# EAGLE library part CON_01X31 (library mfconnectors)
Library: MF_Connectors Description: Header Connector with 31 Positions and 01 Rows. Use the LABEL Attribute to label the pin on the schematic and PCB. You can remove the attributes on the PCB by using the SMASH function on the part and then deleting the text.
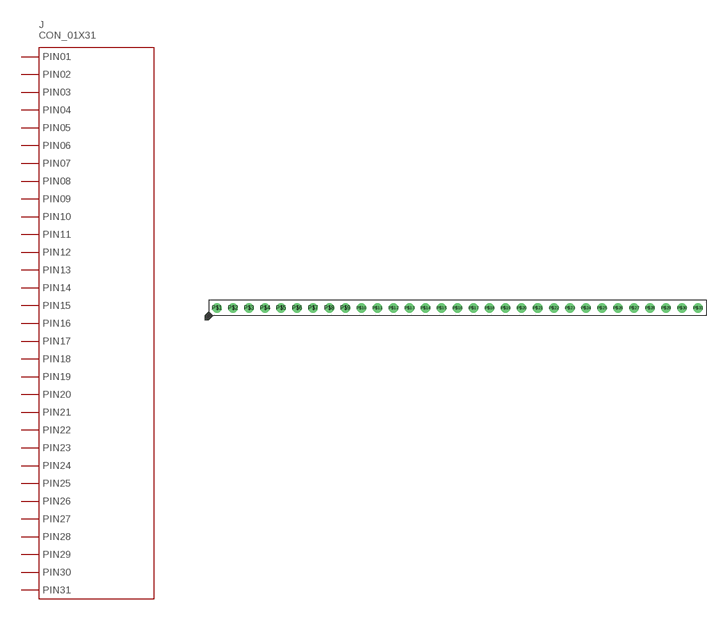
[diagram p28: symbol with the pads of PTH_2.54MM_01X31; footprint PTH_2.54MM_01X31]

Designator prefix J

## CON_01X31_PTH_2.54MM (HOUSEPART: YES; MPN: MF-CON-2.54mm-01x31; POPULATE: 1; URL: https://factory.macrofab.com/part/MF-CON-2.54mm-01x31; VALUE: MF-CON-2.54mm-01x31)  [PTH_2.54MM_01X31]
P$1  PIN1
P$2  PIN2
P$3  PIN3
P$4  PIN4
P$5  PIN5
P$6  PIN6
P$7  PIN7
P$8  PIN8
P$9  PIN9
P$10  PIN10
P$11  PIN11
P$12  PIN12
P$13  PIN13
P$14  PIN14
P$15  PIN15
P$16  PIN16
P$17  PIN17
P$18  PIN18
P$19  PIN19
P$20  PIN20
P$21  PIN21
P$22  PIN22
P$23  PIN23
P$24  PIN24
P$25  PIN25
P$26  PIN26
P$27  PIN27
P$28  PIN28
P$29  PIN29
P$30  PIN30
P$31  PIN31

## Footprint PTH_2.54MM_01X31 (pad centres in mm)
Description: Package for 2.54MM Pitch Header 31 Position. Based on 4UCON 00834.
drill 1: P$1 -38.1,0; P$2 -35.56,0; P$3 -33.02,0; P$4 -30.48,0; P$5 -27.94,0; P$6 -25.4,0; P$7 -22.86,0; P$8 -20.32,0; P$9 -17.78,0; P$10 -15.24,0; P$11 -12.7,0; P$12 -10.16,0; P$13 -7.62,0; P$14 -5.08,0; P$15 -2.54,0; P$16 0,0; P$17 2.54,0; P$18 5.08,0; P$19 7.62,0; P$20 10.16,0; P$21 12.7,0; P$22 15.24,0; P$23 17.78,0; P$24 20.32,0; P$25 22.86,0; P$26 25.4,0; P$27 27.94,0; P$28 30.48,0; P$29 33.02,0; P$30 35.56,0; P$31 38.1,0